# EAGLE library part 255-436-5 (library con-wago255)
WAGO
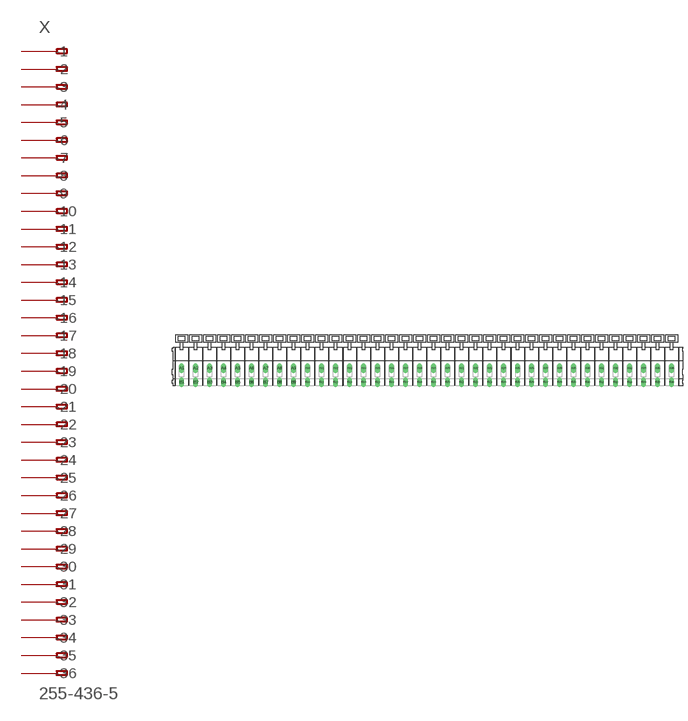
[diagram p51: symbol with the pads of 255-436-5; footprint 255-436-5]

Designator prefix X

## 255-436-5 (OC_FARNELL: unknown; OC_NEWARK: unknown)  [255-436-5]
A1  -1  pas
A2  -2  pas
A3  -3  pas
A4  -4  pas
A5  -5  pas
A6  -6  pas
A7  -7  pas
A8  -8  pas
A9  -9  pas
A10  -10  pas
A11  -11  pas
A12  -12  pas
A13  -13  pas
A14  -14  pas
A15  -15  pas
A16  -16  pas
A17  -17  pas
A18  -18  pas
A19  -19  pas
A20  -20  pas
A21  -21  pas
A22  -22  pas
A23  -23  pas
A24  -24  pas
A25  -25  pas
A26  -26  pas
A27  -27  pas
A28  -28  pas
A29  -29  pas
A30  -30  pas
A31  -31  pas
A32  -32  pas
A33  -33  pas
A34  -34  pas
A35  -35  pas
A36  -36  pas
B1  B-1  pas
B2  B-2  pas
B3  B-3  pas
B4  B-4  pas
B5  B-5  pas
B6  B-6  pas
B7  B-7  pas
B8  B-8  pas
B9  B-9  pas
B10  B-10  pas
B11  B-11  pas
B12  B-12  pas
B13  B-13  pas
B14  B-14  pas
B15  B-15  pas
B16  B-16  pas
B17  B-17  pas
B18  B-18  pas
B19  B-19  pas
B20  B-20  pas
B21  B-21  pas
B22  B-22  pas
B23  B-23  pas
B24  B-24  pas
B25  B-25  pas
B26  B-26  pas
B27  B-27  pas
B28  B-28  pas
B29  B-29  pas
B30  B-30  pas
B31  B-31  pas
B32  B-32  pas
B33  B-33  pas
B34  B-34  pas
B35  B-35  pas
B36  B-36  pas

## Footprint 255-436-5 (pad centres in mm)
Grid 5.0 mm
drill 1.2 long: A1 -87.5,0; A2 -82.5,0; A3 -77.5,0; A4 -72.5,0; A5 -67.5,0; A6 -62.5,0; A7 -57.5,0; A8 -52.5,0; A9 -47.5,0; A10 -42.5,0; A11 -37.5,0; A12 -32.5,0; A13 -27.5,0; A14 -22.5,0; A15 -17.5,0; A16 -12.5,0; A17 -7.5,0; A18 -2.5,0; A19 2.5,0; A20 7.5,0; A21 12.5,0; A22 17.5,0; A23 22.5,0; A24 27.5,0; A25 32.5,0; A26 37.5,0; A27 42.5,0; A28 47.5,0; A29 52.5,0; A30 57.5,0; A31 62.5,0; A32 67.5,0; A33 72.5,0; A34 77.5,0; A35 82.5,0; A36 87.5,0; B1 -87.5,-5; B2 -82.5,-5; B3 -77.5,-5; B4 -72.5,-5; B5 -67.5,-5; B6 -62.5,-5; B7 -57.5,-5; B8 -52.5,-5; B9 -47.5,-5; B10 -42.5,-5; B11 -37.5,-5; B12 -32.5,-5; B13 -27.5,-5; B14 -22.5,-5; B15 -17.5,-5; B16 -12.5,-5; B17 -7.5,-5; B18 -2.5,-5; B19 2.5,-5; B20 7.5,-5; B21 12.5,-5; B22 17.5,-5; B23 22.5,-5; B24 27.5,-5; B25 32.5,-5; B26 37.5,-5; B27 42.5,-5; B28 47.5,-5; B29 52.5,-5; B30 57.5,-5; B31 62.5,-5; B32 67.5,-5; B33 72.5,-5; B34 77.5,-5; B35 82.5,-5; B36 87.5,-5